# Altium footprint library Passives.PcbLib: 69 footprints (part 3 of 5)
Each footprint in its own frame and in the unit in brackets; x right, y up, seen from the top. Pads: shape width x height; smd on the part's side, far side on the other; paste and mask are expansions set on the pad; w line width, h text height; cw(c..) or ccw(c..) is an arc to the next point about the centre after c.
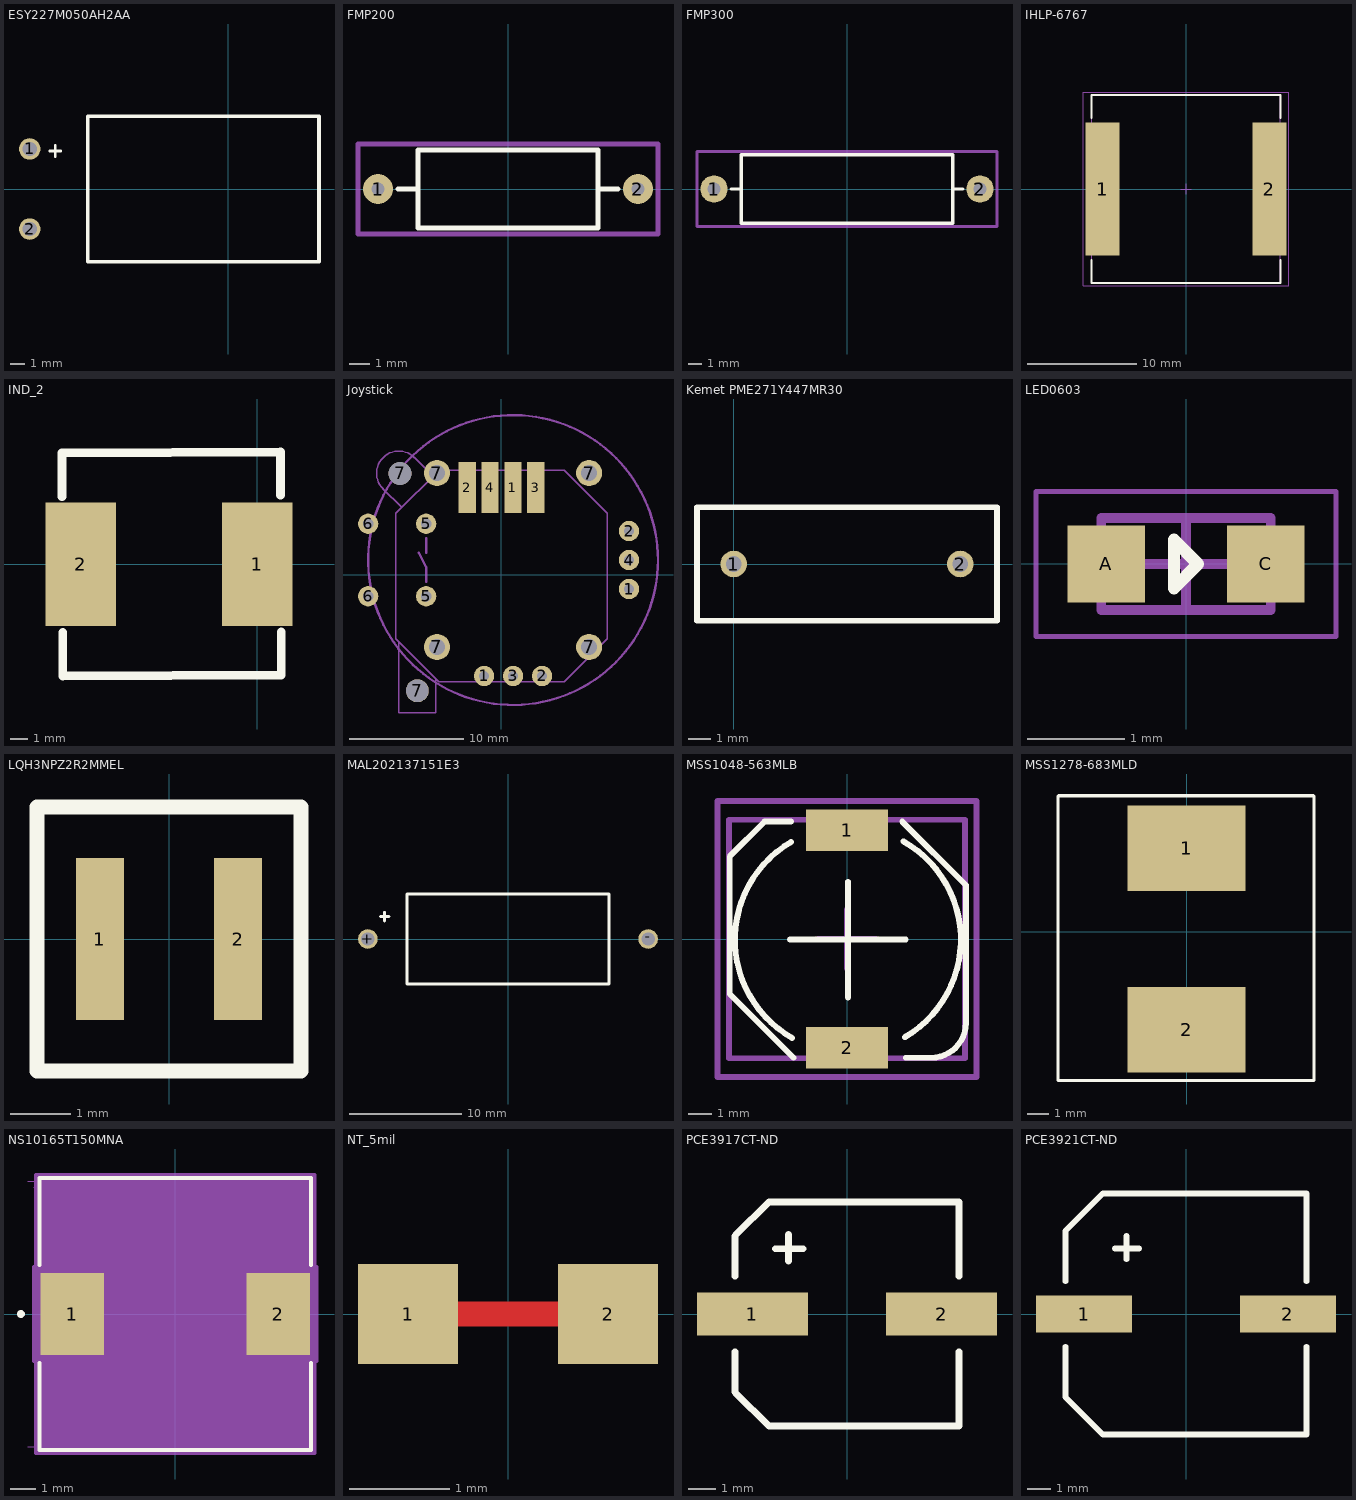
[diagram p2: the footprints below, top view; thin cyan lines are the x and y axes]

## ESY227M050AH2AA [mm]
height 8
pads (2):
  round 1.5 hole 1: 1(-13.843,2.794) 2(-13.843,-2.794)
Top Overlay:
  lines w0.2: -12.444,2.651 -11.682,2.651 ; -12.063,2.27 -12.063,3.032
  lines w0.254: -9.793,-5.08 6.35,-5.08 6.35,5.08 -9.793,5.08 -9.793,-5.08
3D body: height 8, standoff 0, extent -9.793,-4.953 6.35,5.08
3D body: height 4.3, standoff 0, extent -14.793,-4.064 -9.793,3.937

## FMP200 [mm] "Power resistor Yageo 2W"
height 5
pads (2):
  round 1.5 hole 0.65: 1(-6.5,0) 2(6.5,0)
Top Overlay:
  lines w0.254: -5.5,0 -4.5,0 ; 4.5,0 5.5,0 ; -4.5,-1.95 -4.5,1.95 4.5,1.95 4.5,-1.95 -4.5,-1.95
Mechanical 15:
  lines w0.254: -7.5,-2.25 7.5,-2.25 7.5,2.25 -7.5,2.25 -7.5,-2.25
3D body: height 3.9, standoff 0, extent -4.5,-1.934 4.5,1.95

## FMP300 [mm] "Power resistor Yageo 3W"
height 5
pads (2):
  round 2 hole 0.95: 1(-9.75,0) 2(9.75,0)
Top Overlay:
  lines w0.254: -8.5,0 -7.75,0 ; 7.75,0 8.5,0 ; -7.75,-2.5 7.75,-2.5 7.75,2.5 -7.75,2.5 -7.75,0.25 -7.75,-2.5
Mechanical 15:
  lines w0.254: -11,-2.75 11,-2.75 11,2.75 -11,2.75 -11,-2.75

## IHLP-6767 [mm] "Low profile, high current IHLP inductor"
height 7
pads (2):
  rect 3.125x12.19 smd: 1(-7.648,0) 2(7.648,0)
Top Overlay:
  lines w0.2: -8.65,-6.495 -8.65,-8.6 8.65,-8.6 8.65,-6.495 ; -8.65,6.495 -8.65,8.6 8.65,8.6 8.65,6.495
Mechanical 13:
  lines w0.1: -8.64,-8.575 8.64,-8.575 8.64,8.575 -8.64,8.575 -8.64,-8.575
Mechanical 15:
  lines w0.1: -0.5,0 0.5,0 ; 0,-0.5 0,0.5 ; -9.425,-8.85 9.425,-8.85 9.425,8.85 -9.425,8.85 -9.425,-8.85
3D body: height 7, standoff 0, extent -8.64,-8.575 8.64,8.575

## IND_2 [mm] "Inductor"
height 6.5
pads (2):
  rect 4x7 smd: 1(0,0) 2(-10,0)
Top Overlay:
  lines w0.5: -11.06,3.83 -11.06,6.3 1.32,6.35 1.32,3.9 ; -11.02,-3.87 -11.02,-6.34 1.36,-6.29 1.36,-3.83
3D body: height 6.5, standoff 0.1, extent -11.06,-6.33 1.32,6.31

## Joystick [mil] "Footprint for COM-09426 and COM-09032"
pads (20):
  round 70 / inner round 60 / far side round 70 hole 35: 1(-60,-350) 1(440,-50) 2(140,-350) 2(440,150) 3(40,-350) 4(440,50)
  rect 59.06x177.17 smd: 1(39.37,300.12) 2(-118.11,300.12) 3(118.11,300.12) 4(-39.37,300.12)
  round 70 / inner round 60 / far side round 70 hole 35.43: 5(-260,-75) 5(-260,175) 6(-460,-75) 6(-460,175)
  round 78.74 hole 78.74 unplated: 7(-350,348.74) 7(-290.35,-401.06)
  round 90 / inner round 60 / far side round 90 hole 55: 7(-222.5,-250) 7(-222.5,350) 7(302.5,-250) 7(302.5,350)
Mechanical 8:
  circle w8: c40,50 r500
  lines w5: -409.45,296.48 -344.49,231.22 ; -408.7,295.43 cw(c-354.56,349.56) -300.43,403.7 ; -301.18,404.75 -236.22,339.49 ; -354.33,-231.38 -354.33,-477.44 -226.38,-477.44 -226.38,-359.33 ; -354.33,-231.38 -226.38,-359.33 ; -354.33,-231.38 -364.17,-221.54 -364.17,211.54 -344.49,231.22 ; -344.49,231.22 -236.22,339.49 ; -236.22,339.49 -216.54,359.17 216.54,359.17 364.17,211.54 364.17,-221.54 216.54,-369.17 -216.54,-369.17 -226.38,-359.33
  lines w8: -285,75 -260,25 -260,-25 ; -260,75 -260,125
3D body: height 10, standoff 0, extent -560,-120 -560,-120
3D body "9032.STEP": height 1190, standoff -175, extent -495,-472.49 592.5,577.51
3D body: height 10, standoff 0, extent 0,0 0,0
3D body: height 1190, standoff -175, extent -640,200 -640,200
3D body: height 1190, standoff -175, extent -645,220 -645,220
3D body: height 1190, standoff -175, extent -705,195 -705,195

## Kemet PME271Y447MR30 [mm]
pads (2):
  round 1.2 hole 0.7: 1(0,0) 2(10.2,0)
Top Overlay:
  lines w0.254: -1.65,-2.55 -1.65,2.55 11.85,2.55 11.85,-2.55 -1.65,-2.55
3D body: height 10.5, standoff 0, extent -1.65,-2.54 11.85,2.55

## LED0603 [mm] "Chip LED, 2-Leads, Body 1.60x0.80mm, IPC Medium Density"
height 0.8
pads (2):
  rect 0.8x0.8 smd: A(-0.825,0) C(0.825,0)
Top Overlay:
  lines w0.127: -0.125,-0.25 -0.125,0.25 0.125,0 -0.125,-0.25
Mechanical 13:
  lines w0.1: -0.875,-0.475 0.875,-0.475 0.875,0.475 -0.875,0.475 -0.875,-0.475
Mechanical 15:
  lines w0.05: -1.55,-0.75 1.55,-0.75 1.55,0.75 -1.55,0.75 -1.55,-0.75
  lines w0.1: -0.475,0 0.475,0 ; 0,-0.475 0,0.475
3D body: height 0.8, standoff 0, extent 0.525,-0.475 0.875,0.475
3D body: height 0.8, standoff 0, extent -0.875,-0.475 -0.525,0.475
3D body: height 0.75, standoff 0, extent -0.525,-0.475 0.525,0.475

## LQH3NPZ2R2MMEL [mm] "FIXED IND 2.2UH 2.1A 78 MOHM"
height 1.5
pads (2):
  rect 0.8x2.7 smd: 1(-1.15,0) 2(1.15,0)
Top Overlay:
  lines w0.254: -2.2,-2.2 -2.2,2.2 2.2,2.2 2.2,-2.2 -2.2,-2.2

## MAL202137151E3 [mm]
height 8
pads (2):
  round 1.75 hole 1.2: +(-12.5,0) -(12.5,0)
Top Overlay:
  lines w0.254: -11.381,2 -10.619,2 ; -11,1.619 -11,2.381 ; -9,-4 -9,4 9,4 9,-4 -9,-4
3D body: height 8, standoff 0, extent -9,-4 9,4

## MSS1048-563MLB [mm] "FIXED IND 56UH 1.7A 126 MOHM"
height 5.1
pads (2):
  rect 3.56x1.78 smd: 1(0,4.7) 2(0,-4.7)
Top Overlay:
  lines w0.254: -2.463,-0.029 0.037,-0.029 ; -2.422,5.071 -3.563,5.071 -5.063,3.571 -5.063,-2.379 -2.313,-5.129 ; -2.413,4.191 ccw(c0.037,-0.029) -2.371,-4.274 ; 0.037,-2.529 0.037,-0.029 ; 0.037,2.471 0.037,-0.029 ; 2.387,5.071 5.137,2.321 5.137,-3.629 cw(c3.637,-3.629) 3.637,-5.129 2.54,-5.129 ; 2.431,4.223 cw(c0.037,-0.029) 2.497,-4.244 ; 2.537,-0.029 0.037,-0.029
Mechanical 13:
  lines w0.254: -5.1,-5.15 -5.1,5.15 5.1,5.15 5.1,-5.15 -5.1,-5.15
Mechanical 15:
  lines w0.254: -1.27,0 1.27,0 ; 0,-1.27 0,1.27 ; -5.588,-5.969 5.588,-5.969 5.588,5.969 -5.588,5.969 -5.588,-5.969
3D body "Coilcraft-MSS1048-DEFAULT.STEP": height 5, standoff -0.1, extent -5.1,-5.15 5.1,5.15

## MSS1278-683MLD [mil] "Inductor"
pads (2):
  rect 217x157 smd: 1(0,154) 2(0,-180)
Top Overlay:
  lines w6: -236,-273 -236,236 -236,249 -235,250 233,250 234,249 234,237 234,-273 -236,-273

## NS10165T150MNA [mil] "FIXED IND 15UH 3.84A 30 MOHM SMD"
pads (2):
  rect 98.5x126 smd paste+0 mask+0: 1(-159.25,0) 2(159.25,0)
Top Overlay:
  circle w6: c-238.5,0 r3
  lines w6: -210,-76.01 -210,-210 210,-210 210,-76.01 ; -210,76.01 -210,210 210,210 210,76.01
Mechanical 5:
  region: 203.94,-203.94 -203.94,-203.94 -203.94,203.94 203.94,203.94
Mechanical 7:
  lines w1: -228,-205 215,-205 ; -228,205 215,205 ; -213,-205 -213,205 ; -213,-205 -218,-195 -208,-195 -213,-205 ; -213,205 -218,195 -208,195 -213,205
Mechanical 13:
  circle w0: c-202,0 r3
  lines w1: -205,-205 205,-205 205,205 -205,205 -205,-205
Mechanical 15:
  region: -215,-73 -218.5,-73 -218.5,73 -215,73 -215,215 215,215 215,73 218.5,73 218.5,-73 215,-73 215,-215 -215,-215
  lines w6: -218.5,-73 -218.5,73 -215,73 -215,215 215,215 215,73 218.5,73 218.5,-73 215,-73 215,-215 -215,-215 -215,-73 -218.5,-73
3D body: height 255.91, standoff 0, extent -200,-200 200,199.88

## NT_5mil [mm] "Thin Net Tie"
pads (2):
  rect 1x1 smd paste+0 mask+0: 1(-1,0) 2(1,0)
Top Layer:
  lines w0.254: -1,0 1,0

## PCE3917CT-ND [mm] "CAP ALUM 100UF 20% 50V SMD"
height 10.2
pads (2):
  rect 4.1x1.6 smd: 1(-3.5,0) 2(3.5,0)
Top Overlay:
  lines w0.254: -4.15,-2.889 -4.15,-1.397 ; -4.15,1.397 -4.15,2.889 ; -4.118,-2.921 -2.889,-4.15 4.15,-4.15 4.15,-1.397 ; -4.118,2.921 -2.889,4.15 4.15,4.15 4.15,1.397 ; -2.642,2.413 -1.626,2.413 ; -2.159,1.956 -2.159,2.946
3D body "CAP_EEE_F.stp": height 10.54, standoff 0, extent -5.004,-4.255 5.004,4.255

## PCE3921CT-ND [mm] "CAP ALUM 220UF 20% 50V SMD"
height 10.2
pads (2):
  rect 4.1x1.6 smd: 1(-4.35,0) 2(4.35,0)
Top Overlay:
  lines w0.254: -5.15,-1.397 -5.15,-3.539 -3.539,-5.15 5.15,-5.15 5.15,-1.397 ; -5.15,1.397 -5.15,3.539 -3.539,5.15 5.15,5.15 5.15,1.397 ; -3.023,2.794 -2.007,2.794 ; -2.54,2.337 -2.54,3.327
3D body "CAP_EEE_G.stp": height 10.54, standoff 0, extent -5.994,-5.245 5.994,5.245